# EAGLE library part AKL59-08 (library con-ria-59)
RIA Anschlussklemme Typ 59, Raster 3,5 mm, Polzahl 8
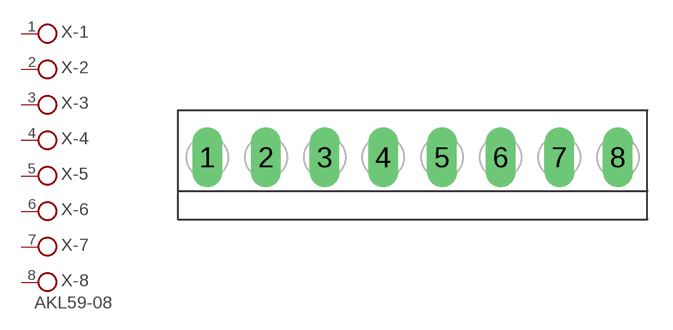
[diagram p2: symbol with the pads of 8POL35; footprint 8POL35]

Designator prefix X; gates -1=PIN -2=PIN -3=PIN -4=PIN -5=PIN -6=PIN -7=PIN -8=PINV

## AKL59-08  [8POL35]
1  -1:1  pas
2  -2:1  pas
3  -3:1  pas
4  -4:1  pas
5  -5:1  pas
6  -6:1  pas
7  -7:1  pas
8  -8:1  pas

## Footprint 8POL35 (pad centres in mm)
Raster 3,5 mm, Polzahl 8
drill 1.2 long: 1 -12.25,0; 2 -8.75,0; 3 -5.25,0; 4 -1.75,0; 5 1.75,0; 6 5.25,0; 7 8.75,0; 8 12.25,0